# EAGLE library part LEDBAR (library SmallRoomLabs)
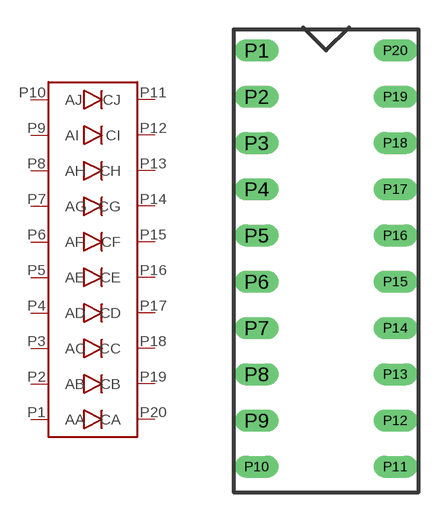
[diagram p16: symbol with the pads of LEDBAR; footprint LEDBAR]

Designator prefix -

## LEDBAR  [LEDBAR]
P1  AA
P2  AB
P3  AC
P4  AD
P5  AE
P6  AF
P7  AG
P8  AH
P9  AI
P10  AJ
P11  CJ
P12  CI
P13  CH
P14  CG
P15  CF
P16  CE
P17  CD
P18  CC
P19  CB
P20  CA

## Footprint LEDBAR (pad centres in mm)
drill 0.7 long: P1 0,22.86; P2 0,20.32; P3 0,17.78; P4 0,15.24; P5 0,12.7; P6 0,10.16; P7 0,7.62; P8 0,5.08; P9 0,2.54; P10 0,0; P11 7.62,0; P12 7.62,2.54; P13 7.62,5.08; P14 7.62,7.62; P15 7.62,10.16; P16 7.62,12.7; P17 7.62,15.24; P18 7.62,17.78; P19 7.62,20.32; P20 7.62,22.86